# Altium footprint library C455280.PcbLib: 1 footprints
Each footprint in its own frame and in the unit in brackets; x right, y up, seen from the top. Pads: shape width x height; smd on the part's side, far side on the other; paste and mask are expansions set on the pad; w line width, h text height; cw(c..) or ccw(c..) is an arc to the next point about the centre after c.
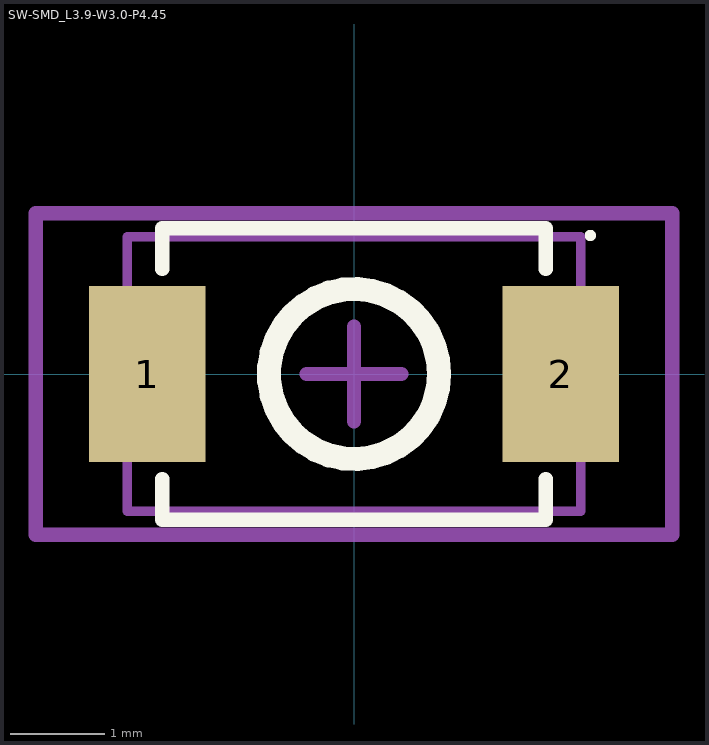
[diagram p0: the footprint, top view; thin cyan lines are the x and y axes]

## SW-SMD_L3.9-W3.0-P4.45 [mm] "Tactile Switch SPST 2mm 3.9mm x 2.93mm Surface Mount"
pads (2):
  rect 1.23x1.86 smd: 1(-2.185,0) 2(2.185,0)
Top Overlay:
  circle w0.06: c2.5,1.465 r0.03
  circle w0.254: c0,0 r0.9
  lines w0.152: -2.026,-1.11 -2.026,-1.541 2.026,-1.541 2.026,-1.11 ; -2.026,1.11 -2.026,1.541 2.026,1.541 2.026,1.11
Mechanical 13:
  lines w0.1: -2.4,-1.45 2.4,-1.45 2.4,1.45 -2.4,1.45 -2.4,-1.45
Mechanical 15:
  lines w0.15: -0.5,0 0.5,0 ; 0,-0.5 0,0.5 ; -3.365,-1.7 3.365,-1.7 3.365,1.7 -3.365,1.7 -3.365,-1.7
3D body "SW-SMD_L3.9-W3.0-P4.45.step": height 0.03, standoff 0, extent -2.4,-1.45 2.4,1.45